# Altium footprint library Footprints_Connectors.PcbLib: 4 footprints
Each footprint in its own frame and in the unit in brackets; x right, y up, seen from the top. Pads: shape width x height; smd on the part's side, far side on the other; paste and mask are expansions set on the pad; w line width, h text height; cw(c..) or ccw(c..) is an arc to the next point about the centre after c.
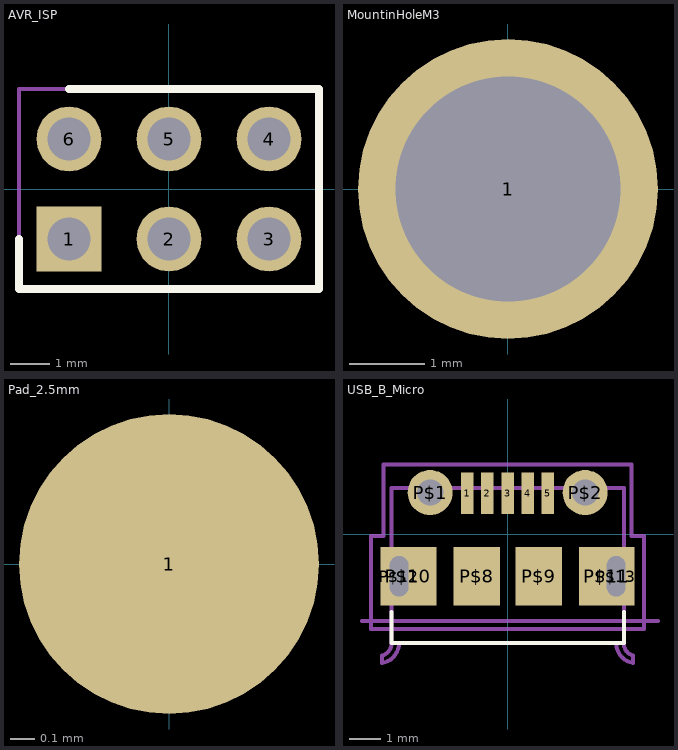
[diagram p0: the footprints below, top view; thin cyan lines are the x and y axes]

## AVR_ISP [mm]
pads (6):
  rect 1.65x1.65 / inner round 1.65 / far side rect 1.65x1.65 hole 1.1: 1(-2.54,-1.27)
  round 1.65 hole 1.1: 2(0,-1.27) 3(2.54,-1.27) 4(2.54,1.27) 5(0,1.27) 6(-2.54,1.27)
Top Overlay:
  lines w0.2: -3.81,-1.27 -3.81,-2.54 3.81,-2.54 3.81,2.54 -2.54,2.54
Mechanical 15:
  lines w0.1: -3.81,-2.54 -3.81,2.54 3.81,2.54 3.81,-2.54 -3.81,-2.54
3D body "M20-9980346.stp": height 8.68, standoff -3, extent -3.82,-2.53 3.8,2.55

## MountinHoleM3 [mm]
pads (1):
  round 4 hole 3 mask+0.05: 1(0,0)

## Pad_2.5mm [mm]
pads (1):
  round 1.25 smd mask+0.05: 1(0,0)

## USB_B_Micro [mm]
pads (13):
  rect 0.4x1.35 smd mask+0.05: 1(-1.3,1.325) 2(-0.65,1.325) 3(0,1.325) 4(0.65,1.325) 5(1.3,1.325)
  round 1.45 hole 0.85: P$1(-2.5,1.35) P$2(2.5,1.35)
  rect 1.5x1.9 smd: P$8(-1,-1.35) P$9(1,-1.35)
  rect 1.8x1.9 smd: P$10(-3.2,-1.35) P$11(3.2,-1.35)
  oval 0.8x1.6 hole 0.6 slot 1.3 at 90 deg: P$12(-3.5,-1.35) P$13(3.5,-1.35)
Top Overlay:
  lines w0.127: -3.75,-2.5 -3.75,-3.5 3.75,-3.5 3.75,-2.5
Mechanical 1:
  lines w0.127: -4.05,-4.15 -4.05,-3.9 ; -4.049,-3.9 ccw(c-4.128,-3.529) -3.75,-3.503 ; -4.047,-4.15 ccw(c-4.162,-3.497) -3.5,-3.497 ; 3.5,-3.497 ccw(c4.162,-3.497) 4.047,-4.15 ; 3.75,-3.503 ccw(c4.128,-3.529) 4.049,-3.9 ; 4.05,-4.15 4.05,-3.9
Mechanical 13:
  lines w0.127: -4.7,-2.8 4.85,-2.8 ; -3.75,-3.5 -3.75,1.5 3.75,1.5 3.75,-3.5
Mechanical 15:
  lines w0.127: -4.4,-3.05 4.4,-3.05 4.4,-0.05 4,-0.05 4,2.25 -4,2.25 -4,-0.05 -4.4,-0.05 -4.4,-3.05
3D body "105017-0001.step": height 2.71, standoff -0.59, extent -4.1,-3.97 4.1,1.43